# Altium footprint library BitMainTech_V1.3.PcbLib: 33 footprints (part 3 of 3)
Each footprint in its own frame and in the unit in brackets; x right, y up, seen from the top. Pads: shape width x height; smd on the part's side, far side on the other; paste and mask are expansions set on the pad; w line width, h text height; cw(c..) or ccw(c..) is an arc to the next point about the centre after c.
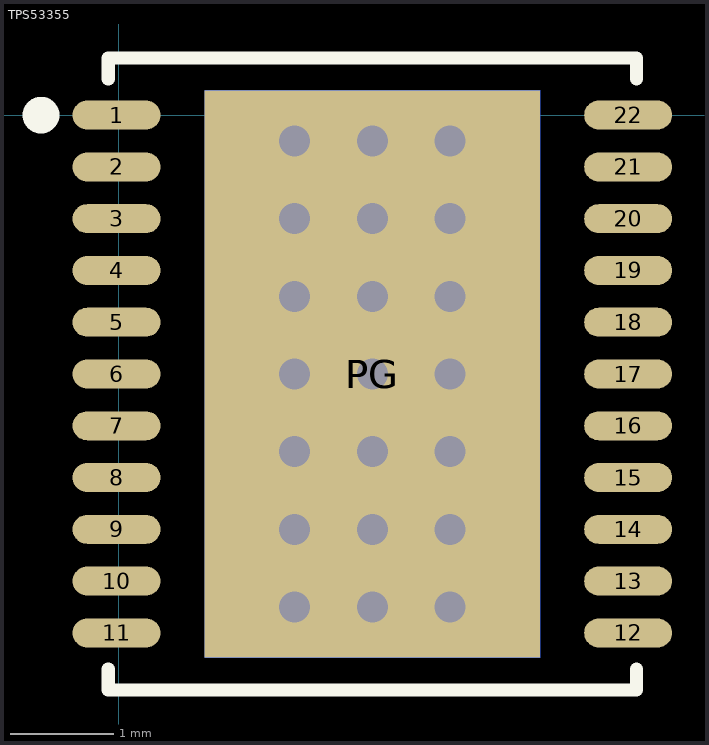
[diagram p2: the footprint, top view; thin cyan lines are the x and y axes]

## TPS53355 [mm]
height 1.5
pads (24):
  oval 0.85x0.28 smd: 1(-0.02,0) 2(-0.02,-0.5) 3(-0.02,-1) 4(-0.02,-1.5) 5(-0.02,-2) 6(-0.02,-2.5) 7(-0.02,-3) 8(-0.02,-3.5) 9(-0.02,-4) 10(-0.02,-4.5) 11(-0.02,-5) 12(4.92,-5) 13(4.92,-4.5) 14(4.92,-4) 15(4.92,-3.5) 16(4.92,-3) 17(4.92,-2.5) 18(4.92,-2) 19(4.92,-1.5) 20(4.92,-1) 21(4.92,-0.5) 22(4.92,0)
  rect 3.24x5.48 smd: PG(2.45,-2.5)
  rect 3.24x5.48 smd far side: PG(2.45,-2.5)
via 2.45,-2.5 diameter 0.5 hole 0.3
via 2.45,-1.75 diameter 0.5 hole 0.3
via 2.45,-1 diameter 0.5 hole 0.3
via 2.45,-0.25 diameter 0.5 hole 0.3
via 2.45,-3.25 diameter 0.5 hole 0.3
via 2.45,-4 diameter 0.5 hole 0.3
via 2.45,-4.75 diameter 0.5 hole 0.3
via 3.2,-2.5 diameter 0.5 hole 0.3
via 3.2,-1.75 diameter 0.5 hole 0.3
via 3.2,-3.25 diameter 0.5 hole 0.3
via 3.2,-4 diameter 0.5 hole 0.3
via 3.2,-4.75 diameter 0.5 hole 0.3
via 3.2,-1 diameter 0.5 hole 0.3
via 3.2,-0.25 diameter 0.5 hole 0.3
via 1.7,-0.25 diameter 0.5 hole 0.3
via 1.7,-1 diameter 0.5 hole 0.3
via 1.7,-1.75 diameter 0.5 hole 0.3
via 1.7,-2.5 diameter 0.5 hole 0.3
via 1.7,-3.25 diameter 0.5 hole 0.3
via 1.7,-4 diameter 0.5 hole 0.3
via 1.7,-4.75 diameter 0.5 hole 0.3
Top Overlay:
  circle w0.254: c-0.75,0 r0.05
  lines w0.127: -0.1,-5.35 -0.1,-5.55 5,-5.55 5,-5.35 ; -0.1,0.35 -0.1,0.55 5,0.55 5,0.35